# Altium schematic symbol library 1N4148W-7-F.SchLib: 1 symbol
Pins are listed as number, name and electrical type; pins without a type are passive.

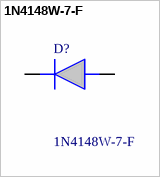
[diagram p0: symbol 1N4148W-7-F]

## 1N4148W-7-F
designator D?
Diode Switching 150mA 100V 400mW SOD123 Diodes Inc 1N4148W-7-F Switching Diode 100V, 2-Pin SOD-123; Manufacturer_Name: Diodes Incorporated; Geometry.Height: 1.45mm; Manufacturer_Part_Number: 1N4148W-7-F; Mouser Part Number: 621-1N4148W-F; Mouser Price/Stock: https://www.mouser.co.uk/ProductDetail/Diodes-Incorporated/1N4148W-7-F?qs=LHX0FizJzg7Ae9ZM8LTAWw%3D%3D; Arrow Part Number: 1N4148W-7-F; Arrow Price/Stock: https://www.arrow.com/en/products/1n4148w-7-f/diodes-incorporated?utm_currency=USD&region=asia; Datasheet Link: https://www.diodes.com//assets/Datasheets/BAV16W_1N4148W.pdf
footprint SOD3716X145N
pins: 1 K, 2 A